# Altium footprint library Resistors.PcbLib: 22 footprints (part 2 of 2)
Each footprint in its own frame and in the unit in brackets; x right, y up, seen from the top. Pads: shape width x height; smd on the part's side, far side on the other; paste and mask are expansions set on the pad; w line width, h text height; cw(c..) or ccw(c..) is an arc to the next point about the centre after c.
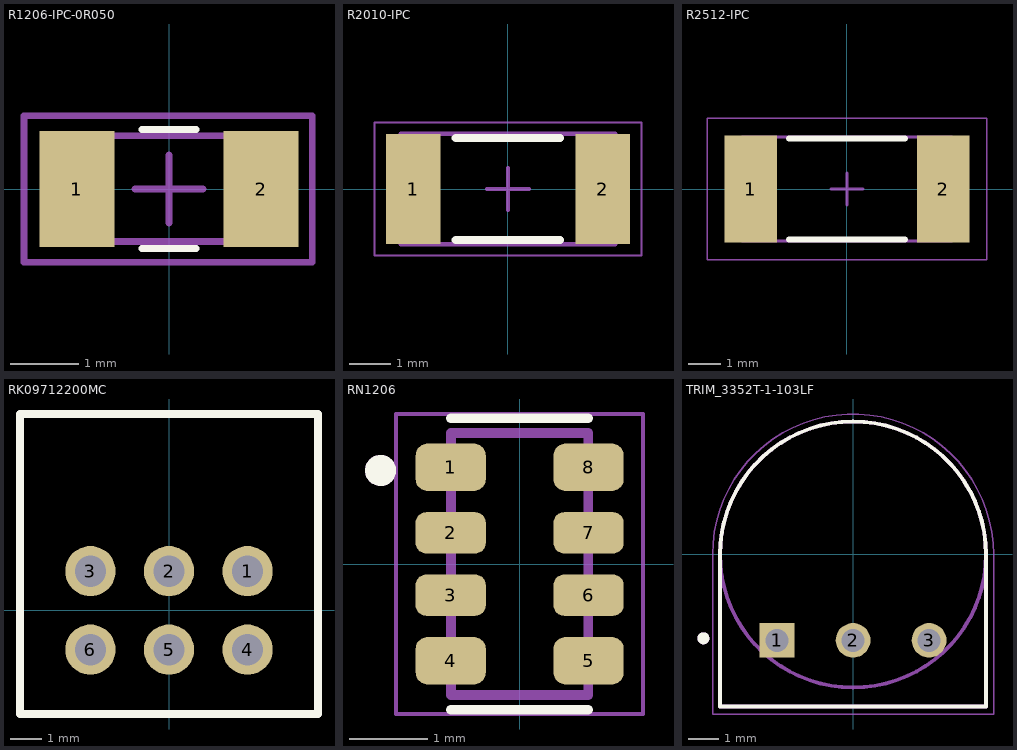
[diagram p1: the footprints below, top view; thin cyan lines are the x and y axes]

## R1206-IPC-0R050 [mm]
pads (2):
  rect 1.1x1.7 smd: 1(-1.35,0) 2(1.35,0)
Top Overlay:
  lines w0.1: -0.4,-0.875 0.4,-0.875 ; -0.4,0.875 0.4,0.875
Top Assy Drawing:
  lines w0.1: -0.5,0 0.5,0 ; 0,-0.5 0,0.5 ; -2.125,-1.075 2.1,-1.075 2.1,1.075 -2.125,1.075 -2.125,-1.075
  text ".Designator" at -1.956,-0.279 h0.38
Top Dimensions and Assy Info:
  lines w0.1: -1.525,-0.772 1.55,-0.772 1.55,0.78 -1.525,0.78 -1.525,-0.772
3D body "R1206 v5.step": height 0.55, standoff 0, extent -1.55,-0.773 1.55,0.781

## R2010-IPC [mm] "Chip Resistor, 2-Leads, Body 5.00x2.50mm, IPC Medium Density"
height 0.7
pads (2):
  rect 1.3x2.65 smd: 1(-2.275,0) 2(2.275,0)
Top Overlay:
  lines w0.2: -1.25,-1.225 1.25,-1.225 ; -1.25,1.225 1.25,1.225
3D Bodies:
  lines w0.1: -2.575,-1.325 2.575,-1.325 2.575,1.325 -2.575,1.325 -2.575,-1.325
Mechanical 15:
  lines w0.05: -3.2,-1.6 3.2,-1.6 3.2,1.6 -3.2,1.6 -3.2,-1.6
  lines w0.1: -0.5,0 0.5,0 ; 0,-0.5 0,0.5
3D body: height 0.7, standoff 0, extent 1.975,-1.325 2.575,1.325
3D body: height 0.7, standoff 0, extent -2.575,-1.325 -1.975,1.325
3D body: height 0.7, standoff 0, extent -1.975,-1.325 1.975,1.325

## R2512-IPC [mm] "Chip Resistor, 2-Leads, Body 6.35x3.10mm, IPC Low Density"
height 0.7
pads (2):
  rect 1.65x3.35 smd: 1(-3,0) 2(3,0)
Top Overlay:
  lines w0.2: -1.8,-1.575 1.8,-1.575 ; -1.8,1.575 1.8,1.575
3D Bodies:
  lines w0.1: -3.275,-1.625 3.275,-1.625 3.275,1.625 -3.275,1.625 -3.275,-1.625
Mechanical 15:
  lines w0.05: -4.35,-2.2 4.35,-2.2 4.35,2.2 -4.35,2.2 -4.35,-2.2
  lines w0.1: -0.5,0 0.5,0 ; 0,-0.5 0,0.5
3D body: height 0.7, standoff 0, extent 2.675,-1.625 3.275,1.625
3D body: height 0.7, standoff 0, extent -3.275,-1.625 -2.675,1.625
3D body: height 0.7, standoff 0, extent -2.675,-1.625 2.675,1.625

## RK09712200MC [mm] "Alps Dual Audio Potentiometer"
pads (6):
  round 1.6 hole 1: 1(2.5,1.25) 2(0,1.25) 3(-2.5,1.25) 4(2.5,-1.25) 5(0,-1.25) 6(-2.5,-1.25)
Top Overlay:
  lines w0.254: -4.75,-3.3 4.75,-3.3 4.75,6.25 -4.75,6.25 -4.75,-3.3
3D body "RK09712_0-L15 v3.step": height 11.36, standoff -3.49, extent -4.75,-3.3 4.75,21.25

## RN1206 [mm] "RESCAXE80P320X160X70-8N"
pads (8):
  rrect50% 0.9x0.61 smd mask+0: 1(-0.885,1.24) 4(-0.885,-1.24) 5(0.885,-1.24) 8(0.885,1.24)
  rrect50% 0.9x0.53 smd mask+0: 2(-0.885,0.4) 3(-0.885,-0.4) 6(0.885,-0.4) 7(0.885,0.4)
Top Overlay:
  circle w0.2: c-1.785,1.2 r0.1
  lines w0.127: -0.88,-1.87 0.88,-1.87 ; -0.88,1.87 0.88,1.87 -0.88,1.87
3D Bodies:
  circle w0.2: c-1.785,1.2 r0.1
  lines w0.127: -0.88,1.68 0.88,1.68 ; -0.88,1.68 -0.88,-1.68 0.88,-1.68 0.88,1.68 ; -0.88,1.68 0.88,1.68
Mechanical 15:
  lines w0.05: -1.585,-1.925 -1.585,1.925 1.585,1.925 1.585,-1.925 -1.585,-1.925
3D body "YC164-FR-0722RL v1.step": height 0.7, standoff 0, extent -0.8,-1.6 0.8,1.6

## TRIM_3352T-1-103LF [mm]
pads (3):
  rect 1.16x1.16 hole 0.76: 1(-2.54,-2.87)
  round 1.16 hole 0.76: 2(0,-2.87) 3(2.54,-2.87)
Top Overlay:
  circle w0.2: c-5,-2.8 r0.1
  lines w0.127: -4.445,-5.08 -4.445,0 cw(c0,0) 4.445,0 4.445,-5.08 -4.445,-5.08
3D Bodies:
  circle w0.127: c0,0 r4.445
  circle w0.2: c-5,-2.8 r0.1
  lines w0.127: -4.445,0 -4.445,-5.08 4.445,-5.08 4.445,0
Mechanical 15:
  lines w0.05: -4.695,-5.33 -4.695,0 cw(c0,0) 4.695,0 4.695,-5.33 -4.695,-5.33
3D body "3352T001XXX v2.step": height 4.03, standoff -6.63, extent -4.443,-5.08 4.443,4.572